# Altium footprint library Components - 11.01.26 - 20.23.PcbLib: 1 footprints
Each footprint in its own frame and in the unit in brackets; x right, y up, seen from the top. Pads: shape width x height; smd on the part's side, far side on the other; paste and mask are expansions set on the pad; w line width, h text height; cw(c..) or ccw(c..) is an arc to the next point about the centre after c.
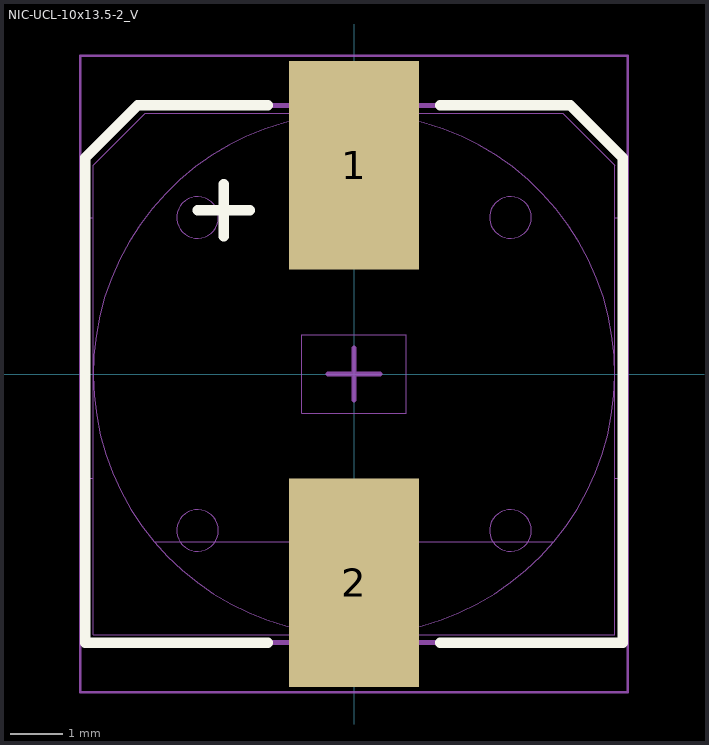
[diagram p0: the footprint, top view; thin cyan lines are the x and y axes]

## NIC-UCL-10x13.5-2_V [mm] "SMD, 2-Leads,Body 10.3x10.3mm, Height 14.3mm"
height 14.3
pads (2):
  rect 2.5x4 smd: 1(0,4) 2(0,-4)
Top Overlay:
  lines w0.2: -3,3.143 -2,3.143 ; -2.5,2.643 -2.5,3.643 ; -1.65,-5.15 -5.15,-5.15 -5.15,4.15 -4.15,5.15 -1.65,5.15 ; 1.65,-5.15 5.15,-5.15 5.15,4.15 4.15,5.15 1.65,5.15
Mechanical 13:
  circle w0.01: c-3,3 r0.4
  circle w0.01: c3,3 r0.4
  circle w0.01: c-3,-3 r0.4
  circle w0.01: c3,-3 r0.4
  lines w0.01: -0.5,-5.45 0.5,-5.45 0.5,-2.65 ; -0.5,-5.45 -0.5,-2.651 ; 0.499,2.651 0.499,5.449 ; 0.5,5.45 -0.5,5.45 -0.5,2.65 ; -5.149,-5.149 5.149,-5.149 ; -5.15,-5.15 -5.15,-2 -5,-2 -5,-5 ; -5.15,-5.15 5.15,-5.15 ; -5,-5 5,-5 ; -5,-5 -5,4 ; -5,-5 5,-5 ; -5,4 -4,5 ; -5,4 -5,3 -5.15,3 -5.15,4.15 -4.15,5.15 4.15,5.15 5.15,4.15 5.15,3 5,3 5,4 ; -5,4 -4,5 ; -4,5 4,5 ; -4,5 4,5 ; -3.83,-3.214 ccw(c0,0) 3.83,-3.214 ; -3.83,-3.214 cw(c0,0) 3.83,-3.214 ; -3.83,-3.214 3.83,-3.214 ; -3.83,-3.214 3.83,-3.214 ; -3.83,-3.214 3.83,-3.214 ; -0.5,2.65 ccw(c0,2.65) 0.5,2.65 -0.5,2.65 ; 0.5,-2.65 ccw(c0,-2.65) -0.5,-2.65 0.5,-2.65 ; 4,5 5,4 ; 4,5 5,4 ; 5,-5 5,4 ; 5,-5 5,-2 5.15,-2 5.15,-5.149 5.149,-5.149 ; -1,-0.75 1,-0.75 1,0.75 -1,0.75 -1,-0.75
  lines w0.1: -5.15,-5.15 -5.15,4.15 -4.15,5.15 4.15,5.15 5.15,4.15 5.15,-5.15 -5.15,-5.15
Mechanical 15:
  lines w0.05: -5.25,-6.1 5.25,-6.1 5.25,6.1 -5.25,6.1 -5.25,-6.1
  lines w0.1: -0.5,0 0.5,0 ; 0,-0.5 0,0.5
3D body: height 0.5, standoff 0.3, extent -5,-5 5,5
3D body: height 0.8, standoff 0.3, extent -5.15,-5.001 5.15,5.15
3D body: height 0.8, standoff 0.3, extent -5.149,-5.149 5.149,3.999
3D body: height 14.3, standoff 0.5, extent -5.004,-3.214 5.001,5.012
3D body: height 14.3, standoff 0.5, extent -3.831,-5.001 3.831,-3.213
3D body: height 0.3, standoff 0, extent -0.499,2.651 0.499,5.449
3D body: height 0.3, standoff 0, extent -0.499,2.152 0.499,2.651
3D body: height 0.3, standoff 0, extent -1,-0.75 1,0.75
3D body: height 0.3, standoff 0, extent -0.5,-2.651 0.499,-2.152
3D body: height 0.3, standoff 0, extent -0.5,-5.45 0.499,-2.651
3D body: height 1.2, standoff 0.8, extent -5.151,2.999 5.151,5.151
3D body: height 0.3, standoff 0, extent 2.601,2.601 3.399,3.399
3D body: height 0.3, standoff 0, extent -3.399,2.601 -2.601,3.399
3D body: height 0.3, standoff 0, extent 2.601,-3.399 3.399,-2.601
3D body: height 0.3, standoff 0, extent -3.399,-3.399 -2.601,-2.601
3D body: height 1.5, standoff 0.8, extent -5.149,-5.149 5.149,-2.001